# EAGLE library part RN4870 (library thermo)
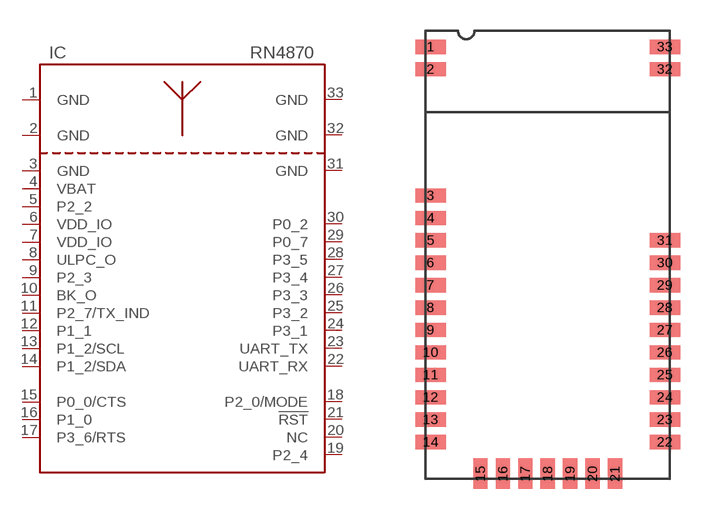
[diagram p0: symbol with the pads of RN4870-MODULE; footprint RN4870-MODULE]

Designator prefix IC

## RN4870  [RN4870-MODULE]
1  GND  pwr
2  GND  pwr
3  GND  pwr
4  VBAT
5  P2_2
6  VDD_IO
7  VDD_IO
8  ULPC_O  out
9  P2_3
10  BK_O  out
11  P2_7/TX_IND  out
12  P1_1
13  P1_2/SCL
14  P1_2/SDA
15  P0_0/CTS
16  P1_0
17  P3_6/RTS
18  P2_0/MODE
19  P2_4
20  NC  nc
21  !RST!  in
22  UART_RX
23  UART_TX  out
24  P3_1  out
25  P3_2  out
26  P3_3  out
27  P3_4  out
28  P3_5  out
29  P0_7  out
30  P0_2  out
31  GND  pwr
32  GND  pwr
33  GND  pwr

## Footprint RN4870-MODULE (pad centres in mm)
Place GND Planes on the restrictet Planes at the ceramic Antenna
smd 1.5 x 0.7: 1 -6.1,12.31; 2 -6.1,11.21; 3 -6.1,5.01; 4 -6.1,3.91; 5 -6.1,2.81; 6 -6.1,1.71; 7 -6.1,0.61; 8 -6.1,-0.49; 9 -6.1,-1.59; 10 -6.1,-2.69; 11 -6.1,-3.79; 12 -6.1,-4.89; 13 -6.1,-5.99; 14 -6.1,-7.09; 22 5.4,-7.09; 23 5.4,-5.99; 24 5.4,-4.89; 25 5.4,-3.79; 26 5.4,-2.69; 27 5.4,-1.59; 28 5.4,-0.49; 29 5.4,0.61; 30 5.4,1.71; 31 5.4,2.81; 32 5.4,11.21; 33 5.4,12.31
smd 0.7 x 1.5: 15 -3.65,-8.64; 16 -2.55,-8.64; 17 -1.45,-8.64; 18 -0.35,-8.64; 19 0.75,-8.64; 20 1.85,-8.64; 21 2.95,-8.64